# EAGLE library part TPS56637 (library borkedlabs-powerics)
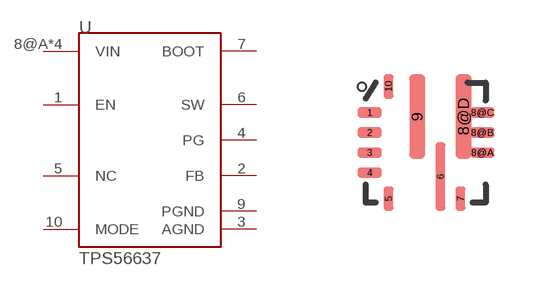
[diagram p17: symbol with the pads of VQFN-HR-3X3; footprint VQFN-HR-3X3]

Designator prefix -

## TPS56637RPA (PACKAGE: VQFN10-HR)  [VQFN-HR-3X3]
1  EN
2  FB
3  AGND
4  PG
5  NC
6  SW
7  BOOT
8@A  VIN
8@B  VIN
8@C  VIN
8@D  VIN
9  PGND
10  MODE

## Footprint VQFN-HR-3X3 (pad centres in mm)
smd 0.6 x 0.25: 1 -1.4,0.75; 2 -1.4,0.25; 3 -1.4,-0.25; 4 -1.4,-0.75; 8@A 1.42,-0.25; 8@B 1.42,0.25; 8@C 1.42,0.75
smd 0.25 x 0.6: 5 -0.93,-1.4; 7 0.87,-1.4; 10 -0.93,1.4
smd 0.25 x 1.7: 6 0.37,-0.85
smd 0.4 x 2.1: 8@D 0.95,0.65; 9 -0.21,0.65